# Altium footprint library IC_Texas_Instruments_LP5907MFX-3.3-NOPB.PcbLib: 1 footprints
Each footprint in its own frame and in the unit in brackets; x right, y up, seen from the top. Pads: shape width x height; smd on the part's side, far side on the other; paste and mask are expansions set on the pad; w line width, h text height; cw(c..) or ccw(c..) is an arc to the next point about the centre after c.
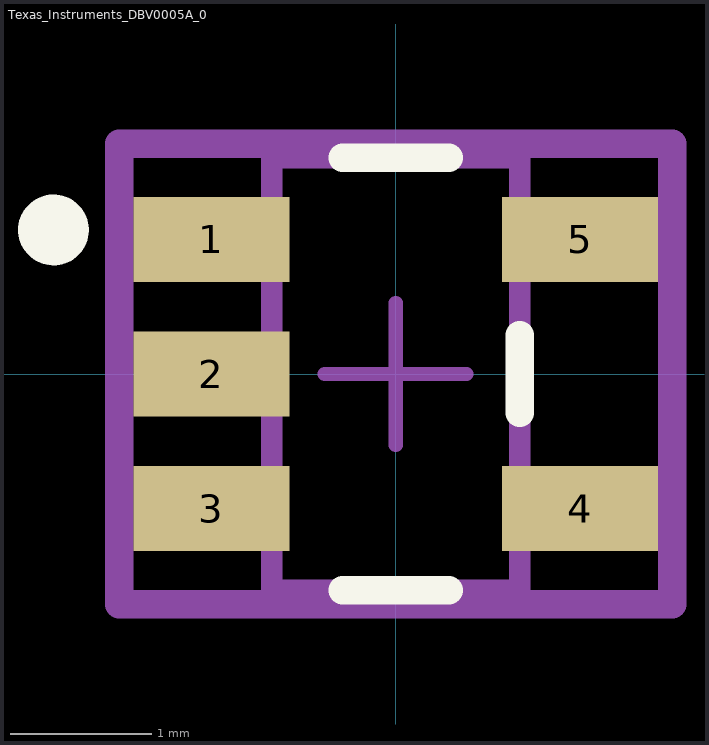
[diagram p0: the footprint, top view; thin cyan lines are the x and y axes]

## Texas_Instruments_DBV0005A_0 [mm]
pads (5):
  rect 1.1x0.6 smd: 1(-1.3,0.95) 2(-1.3,0) 3(-1.3,-0.95) 4(1.3,-0.95) 5(1.3,0.95)
Top Overlay:
  circle w0.25: c-2.413,1.016 r0.125
  lines w0.2: -0.375,-1.525 0.375,-1.525 ; -0.375,1.525 0.375,1.525 ; 0.875,-0.275 0.875,0.275
Mechanical 10:
  lines w0.2: -1.95,-1.625 -1.95,1.625 1.95,1.625 1.95,-1.625 -1.95,-1.625
  text ".Designator" at 0,0 h1
Mechanical 12:
  lines w0.15: -0.875,-1.525 -0.875,1.525 0.875,1.525 0.875,-1.525 -0.875,-1.525
Mechanical 15:
  lines w0.1: -0.5,0 0.5,0 ; 0,-0.5 0,0.5
  lines w0.2: -1.95,-1.625 -1.95,1.625 1.95,1.625 1.95,-1.625 -1.95,-1.625
3D body "DBV5.step": height 1.45, standoff 0, extent -1.499,-1.524 1.499,1.524